# Altium schematic symbol library Vishay Lite-On Discrete Diode.SchLib: 290 symbols (part 1 of 3)
Pins are listed as number, name and electrical type; pins without a type are passive.

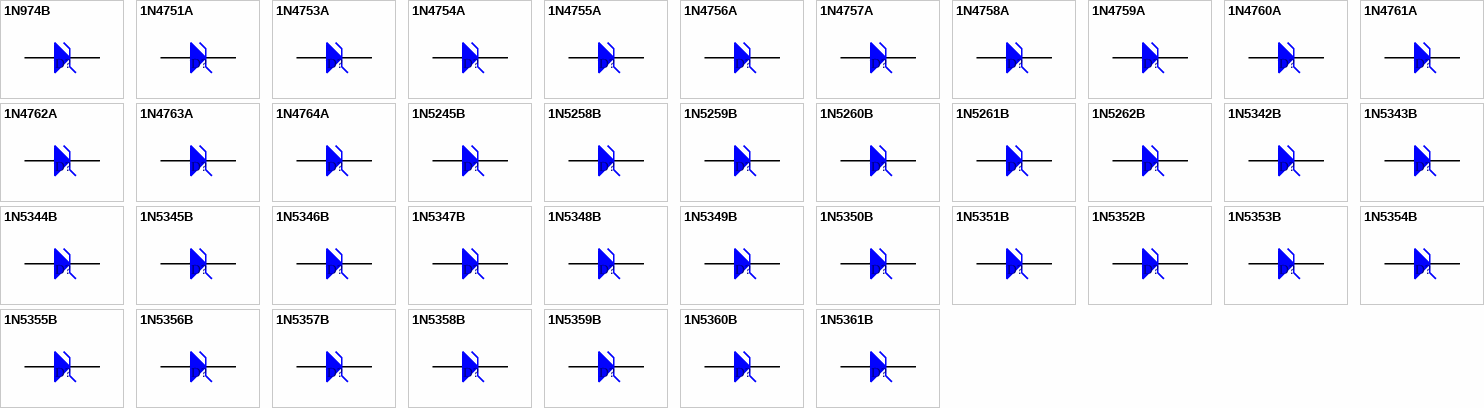
[diagram p0: symbols 1N974B to 1N5361B]

## 1N974B
designator D?
Silicon Zener Diode; Published: 8-Jun-2000; LatestRevisionDate: 17-Jul-2002; LatestRevisionNote: Re-released for DXP Platform.; PackageReference: DO-35; Publisher: Altium Limited; ComponentLink1Description: Manufacturer Link; ComponentLink1URL: http://www.vishay.com/
footprint DO-35 (Diode, Axial; Body 4 x 2 mm (LxDia. max), Lead Dia. 0.6 mm (max))
simulation model 1N974B (SUBCKT)
signal-integrity model 1N974B
pins: 1 A, 2 K

## 1N4751A
designator D?
1W Zener Diode; Published: 8-Jun-2000; LatestRevisionDate: 17-Jul-2002; LatestRevisionNote: Re-released for DXP Platform.; DatasheetDocument: REV. H; PackageReference: DO-41; Publisher: Altium Limited; Code_JEDEC: DO-204-AL; ComponentLink1Description: Manufacturer Link; ComponentLink1URL: http://www.vishay.com/; ComponentLink2Description: Datasheet; ComponentLink2URL: http://www.vishay.com/docs/85816/85816.pdf
footprint DO-41 (Diode, Axial; Body 4.7 x 2.7 mm (LxDia. max), Lead Dia. 0.86 mm (max))
simulation model 1N4751A (SUBCKT)
signal-integrity model 1N4751A
pins: 1 A, 2 K

## 1N4753A
designator D?
1W Zener Diode; Published: 8-Jun-2000; LatestRevisionDate: 17-Jul-2002; LatestRevisionNote: Re-released for DXP Platform.; DatasheetDocument: REV. H; PackageReference: DO-41; Publisher: Altium Limited; Code_JEDEC: DO-204-AL; ComponentLink1Description: Manufacturer Link; ComponentLink1URL: http://www.vishay.com/; ComponentLink2Description: Datasheet; ComponentLink2URL: http://www.vishay.com/docs/85816/85816.pdf
footprint DO-41 (Diode, Axial; Body 4.7 x 2.7 mm (LxDia. max), Lead Dia. 0.86 mm (max))
simulation model 1N4753A (SUBCKT)
signal-integrity model 1N4753A
pins: 1 A, 2 K

## 1N4754A
designator D?
1W Zener Diode; Published: 8-Jun-2000; LatestRevisionDate: 17-Jul-2002; LatestRevisionNote: Re-released for DXP Platform.; DatasheetDocument: REV. H; PackageReference: DO-41; Publisher: Altium Limited; Code_JEDEC: DO-204-AL; ComponentLink1Description: Manufacturer Link; ComponentLink1URL: http://www.vishay.com/; ComponentLink2Description: Datasheet; ComponentLink2URL: http://www.vishay.com/docs/85816/85816.pdf
footprint DO-41 (Diode, Axial; Body 4.7 x 2.7 mm (LxDia. max), Lead Dia. 0.86 mm (max))
simulation model 1N4754A (SUBCKT)
signal-integrity model 1N4754A
pins: 1 A, 2 K

## 1N4755A
designator D?
1W Zener Diode; Published: 8-Jun-2000; LatestRevisionDate: 17-Jul-2002; LatestRevisionNote: Re-released for DXP Platform.; DatasheetDocument: REV. H; PackageReference: DO-41; Publisher: Altium Limited; Code_JEDEC: DO-204-AL; ComponentLink1Description: Manufacturer Link; ComponentLink1URL: http://www.vishay.com/; ComponentLink2Description: Datasheet; ComponentLink2URL: http://www.vishay.com/docs/85816/85816.pdf
footprint DO-41 (Diode, Axial; Body 4.7 x 2.7 mm (LxDia. max), Lead Dia. 0.86 mm (max))
simulation model 1N4755A (SUBCKT)
signal-integrity model 1N4755A
pins: 1 A, 2 K

## 1N4756A
designator D?
1W Zener Diode; Published: 8-Jun-2000; LatestRevisionDate: 17-Jul-2002; LatestRevisionNote: Re-released for DXP Platform.; DatasheetDocument: REV. H; PackageReference: DO-41; Publisher: Altium Limited; Code_JEDEC: DO-204-AL; ComponentLink1Description: Manufacturer Link; ComponentLink1URL: http://www.vishay.com/; ComponentLink2Description: Datasheet; ComponentLink2URL: http://www.vishay.com/docs/85816/85816.pdf
footprint DO-41 (Diode, Axial; Body 4.7 x 2.7 mm (LxDia. max), Lead Dia. 0.86 mm (max))
simulation model 1N4756A (SUBCKT)
signal-integrity model 1N4756A
pins: 1 A, 2 K

## 1N4757A
designator D?
1W Zener Diode; Published: 8-Jun-2000; LatestRevisionDate: 17-Jul-2002; LatestRevisionNote: Re-released for DXP Platform.; DatasheetDocument: REV. H; PackageReference: DO-41; Publisher: Altium Limited; Code_JEDEC: DO-204-AL; ComponentLink1Description: Manufacturer Link; ComponentLink1URL: http://www.vishay.com/; ComponentLink2Description: Datasheet; ComponentLink2URL: http://www.vishay.com/docs/85816/85816.pdf
footprint DO-41 (Diode, Axial; Body 4.7 x 2.7 mm (LxDia. max), Lead Dia. 0.86 mm (max))
simulation model 1N4757A (SUBCKT)
signal-integrity model 1N4757A
pins: 1 A, 2 K

## 1N4758A
designator D?
1W Zener Diode; Published: 8-Jun-2000; LatestRevisionDate: 17-Jul-2002; LatestRevisionNote: Re-released for DXP Platform.; DatasheetDocument: REV. H; PackageReference: DO-41; Publisher: Altium Limited; Code_JEDEC: DO-204-AL; ComponentLink1Description: Manufacturer Link; ComponentLink1URL: http://www.vishay.com/; ComponentLink2Description: Datasheet; ComponentLink2URL: http://www.vishay.com/docs/85816/85816.pdf
footprint DO-41 (Diode, Axial; Body 4.7 x 2.7 mm (LxDia. max), Lead Dia. 0.86 mm (max))
simulation model 1N4758A (SUBCKT)
signal-integrity model 1N4758A
pins: 1 A, 2 K

## 1N4759A
designator D?
1W Zener Diode; Published: 8-Jun-2000; LatestRevisionDate: 17-Jul-2002; LatestRevisionNote: Re-released for DXP Platform.; DatasheetDocument: REV. H; PackageReference: DO-41; Publisher: Altium Limited; Code_JEDEC: DO-204-AL; ComponentLink1Description: Manufacturer Link; ComponentLink1URL: http://www.vishay.com/; ComponentLink2Description: Datasheet; ComponentLink2URL: http://www.vishay.com/docs/85816/85816.pdf
footprint DO-41 (Diode, Axial; Body 4.7 x 2.7 mm (LxDia. max), Lead Dia. 0.86 mm (max))
simulation model 1N4759A (SUBCKT)
signal-integrity model 1N4759A
pins: 1 A, 2 K

## 1N4760A
designator D?
1W Zener Diode; Published: 8-Jun-2000; LatestRevisionDate: 17-Jul-2002; LatestRevisionNote: Re-released for DXP Platform.; DatasheetDocument: REV. H; PackageReference: DO-41; Publisher: Altium Limited; Code_JEDEC: DO-204-AL; ComponentLink1Description: Manufacturer Link; ComponentLink1URL: http://www.vishay.com/; ComponentLink2Description: Datasheet; ComponentLink2URL: http://www.vishay.com/docs/85816/85816.pdf
footprint DO-41 (Diode, Axial; Body 4.7 x 2.7 mm (LxDia. max), Lead Dia. 0.86 mm (max))
simulation model 1N4760A (SUBCKT)
signal-integrity model 1N4760A
pins: 1 A, 2 K

## 1N4761A
designator D?
1W Zener Diode; Published: 8-Jun-2000; LatestRevisionDate: 17-Jul-2002; LatestRevisionNote: Re-released for DXP Platform.; DatasheetDocument: REV. H; PackageReference: DO-41; Publisher: Altium Limited; Code_JEDEC: DO-204-AL; ComponentLink1Description: Manufacturer Link; ComponentLink1URL: http://www.vishay.com/; ComponentLink2Description: Datasheet; ComponentLink2URL: http://www.vishay.com/docs/85816/85816.pdf
footprint DO-41 (Diode, Axial; Body 4.7 x 2.7 mm (LxDia. max), Lead Dia. 0.86 mm (max))
simulation model 1N4761A (SUBCKT)
signal-integrity model 1N4761A
pins: 1 A, 2 K

## 1N4762A
designator D?
1W Zener Diode; Published: 8-Jun-2000; LatestRevisionDate: 17-Jul-2002; LatestRevisionNote: Re-released for DXP Platform.; DatasheetDocument: REV. H; PackageReference: DO-41; Publisher: Altium Limited; Code_JEDEC: DO-204-AL; ComponentLink1Description: Manufacturer Link; ComponentLink1URL: http://www.vishay.com/; ComponentLink2Description: Datasheet; ComponentLink2URL: http://www.vishay.com/docs/85816/85816.pdf
footprint DO-41 (Diode, Axial; Body 4.7 x 2.7 mm (LxDia. max), Lead Dia. 0.86 mm (max))
simulation model 1N4762A (SUBCKT)
signal-integrity model 1N4762A
pins: 1 A, 2 K

## 1N4763A
designator D?
1W Zener Diode; Published: 8-Jun-2000; LatestRevisionDate: 17-Jul-2002; LatestRevisionNote: Re-released for DXP Platform.; DatasheetDocument: REV. H; PackageReference: DO-41; Publisher: Altium Limited; Code_JEDEC: DO-204-AL; ComponentLink1Description: Manufacturer Link; ComponentLink1URL: http://www.vishay.com/; ComponentLink2Description: Datasheet; ComponentLink2URL: http://www.vishay.com/docs/85816/85816.pdf
footprint DO-41 (Diode, Axial; Body 4.7 x 2.7 mm (LxDia. max), Lead Dia. 0.86 mm (max))
simulation model 1N4763A (SUBCKT)
signal-integrity model 1N4763A
pins: 1 A, 2 K

## 1N4764A
designator D?
1W Zener Diode; Published: 8-Jun-2000; LatestRevisionDate: 17-Jul-2002; LatestRevisionNote: Re-released for DXP Platform.; DatasheetDocument: REV. H; PackageReference: DO-41; Publisher: Altium Limited; Code_JEDEC: DO-204-AL; ComponentLink1Description: Manufacturer Link; ComponentLink1URL: http://www.vishay.com/; ComponentLink2Description: Datasheet; ComponentLink2URL: http://www.vishay.com/docs/85816/85816.pdf
footprint DO-41 (Diode, Axial; Body 4.7 x 2.7 mm (LxDia. max), Lead Dia. 0.86 mm (max))
simulation model 1N4764A (SUBCKT)
signal-integrity model 1N4764A
pins: 1 A, 2 K

## 1N5245B
designator D?
500mW Epitaxial Zener Diode; Published: 8-Jun-2000; LatestRevisionDate: 17-Jul-2002; LatestRevisionNote: Re-released for DXP Platform.; DatasheetDocument: REV. G-2; PackageReference: DO-35; Publisher: Altium Limited; ComponentLink1Description: Manufacturer Link; ComponentLink1URL: http://www.vishay.com/; ComponentLink2Description: Datasheet; ComponentLink2URL: http://www.vishay.com/docs/85588/85588.pdf
footprint DO-35 (Diode, Axial; Body 4 x 2 mm (LxDia. max), Lead Dia. 0.6 mm (max))
simulation model 1N5245B (SUBCKT)
signal-integrity model 1N5245B
pins: 1 A, 2 K

## 1N5258B
designator D?
500mW Epitaxial Zener Diode; Published: 8-Jun-2000; LatestRevisionDate: 17-Jul-2002; LatestRevisionNote: Re-released for DXP Platform.; DatasheetDocument: REV. G-2; PackageReference: DO-35; Publisher: Altium Limited; ComponentLink1Description: Manufacturer Link; ComponentLink1URL: http://www.vishay.com/; ComponentLink2Description: Datasheet; ComponentLink2URL: http://www.vishay.com/docs/85588/85588.pdf
footprint DO-35 (Diode, Axial; Body 4 x 2 mm (LxDia. max), Lead Dia. 0.6 mm (max))
simulation model 1N5258B (SUBCKT)
signal-integrity model 1N5258B
pins: 1 A, 2 K

## 1N5259B
designator D?
500mW Epitaxial Zener Diode; Published: 8-Jun-2000; LatestRevisionDate: 17-Jul-2002; LatestRevisionNote: Re-released for DXP Platform.; DatasheetDocument: REV. G-2; PackageReference: DO-35; Publisher: Altium Limited; ComponentLink1Description: Manufacturer Link; ComponentLink1URL: http://www.vishay.com/; ComponentLink2Description: Datasheet; ComponentLink2URL: http://www.vishay.com/docs/85588/85588.pdf
footprint DO-35 (Diode, Axial; Body 4 x 2 mm (LxDia. max), Lead Dia. 0.6 mm (max))
simulation model 1N5259B (SUBCKT)
signal-integrity model 1N5259B
pins: 1 A, 2 K

## 1N5260B
designator D?
500mW Epitaxial Zener Diode; Published: 8-Jun-2000; LatestRevisionDate: 17-Jul-2002; LatestRevisionNote: Re-released for DXP Platform.; DatasheetDocument: REV. G-2; PackageReference: DO-35; Publisher: Altium Limited; ComponentLink1Description: Manufacturer Link; ComponentLink1URL: http://www.vishay.com/; ComponentLink2Description: Datasheet; ComponentLink2URL: http://www.vishay.com/docs/85588/85588.pdf
footprint DO-35 (Diode, Axial; Body 4 x 2 mm (LxDia. max), Lead Dia. 0.6 mm (max))
simulation model 1N5260B (SUBCKT)
signal-integrity model 1N5260B
pins: 1 A, 2 K

## 1N5261B
designator D?
500mW Epitaxial Zener Diode; Published: 8-Jun-2000; LatestRevisionDate: 17-Jul-2002; LatestRevisionNote: Re-released for DXP Platform.; DatasheetDocument: REV. G-2; PackageReference: DO-35; Publisher: Altium Limited; ComponentLink1Description: Manufacturer Link; ComponentLink1URL: http://www.vishay.com/; ComponentLink2Description: Datasheet; ComponentLink2URL: http://www.vishay.com/docs/85588/85588.pdf
footprint DO-35 (Diode, Axial; Body 4 x 2 mm (LxDia. max), Lead Dia. 0.6 mm (max))
simulation model 1N5261B (SUBCKT)
signal-integrity model 1N5261B
pins: 1 A, 2 K

## 1N5262B
designator D?
500mW Epitaxial Zener Diode; Published: 8-Jun-2000; LatestRevisionDate: 17-Jul-2002; LatestRevisionNote: Re-released for DXP Platform.; DatasheetDocument: REV. G-2; PackageReference: DO-35; Publisher: Altium Limited; ComponentLink1Description: Manufacturer Link; ComponentLink1URL: http://www.vishay.com/; ComponentLink2Description: Datasheet; ComponentLink2URL: http://www.vishay.com/docs/85588/85588.pdf
footprint DO-35 (Diode, Axial; Body 4 x 2 mm (LxDia. max), Lead Dia. 0.6 mm (max))
simulation model 1N5262B (SUBCKT)
signal-integrity model 1N5262B
pins: 1 A, 2 K

## 1N5342B
designator D?
Silicon Zener Diode; Published: 8-Jun-2000; LatestRevisionDate: 17-Jul-2002; LatestRevisionNote: Re-released for DXP Platform.; PackageReference: A-500; Publisher: Altium Limited; ComponentLink1Description: Manufacturer Link; ComponentLink1URL: http://www.vishay.com/
footprint A-500 (Diode, Axial; Body 8.9 x 3.7 mm (LxDia. max), Lead Dia. 1.09 mm (max))
simulation model 1N5342B (DIODE)
signal-integrity model 1N5342B
pins: 1 A, 2 K

## 1N5343B
designator D?
Silicon Zener Diode; Published: 8-Jun-2000; LatestRevisionDate: 17-Jul-2002; LatestRevisionNote: Re-released for DXP Platform.; PackageReference: A-500; Publisher: Altium Limited; ComponentLink1Description: Manufacturer Link; ComponentLink1URL: http://www.vishay.com/
footprint A-500 (Diode, Axial; Body 8.9 x 3.7 mm (LxDia. max), Lead Dia. 1.09 mm (max))
simulation model 1N5343B (SUBCKT)
signal-integrity model 1N5343B
pins: 1 A, 2 K

## 1N5344B
designator D?
Silicon Zener Diode; Published: 8-Jun-2000; LatestRevisionDate: 17-Jul-2002; LatestRevisionNote: Re-released for DXP Platform.; PackageReference: A-500; Publisher: Altium Limited; ComponentLink1Description: Manufacturer Link; ComponentLink1URL: http://www.vishay.com/
footprint A-500 (Diode, Axial; Body 8.9 x 3.7 mm (LxDia. max), Lead Dia. 1.09 mm (max))
simulation model 1N5344B (DIODE)
signal-integrity model 1N5344B
pins: 1 A, 2 K

## 1N5345B
designator D?
Silicon Zener Diode; Published: 8-Jun-2000; LatestRevisionDate: 17-Jul-2002; LatestRevisionNote: Re-released for DXP Platform.; PackageReference: A-500; Publisher: Altium Limited; ComponentLink1Description: Manufacturer Link; ComponentLink1URL: http://www.vishay.com/
footprint A-500 (Diode, Axial; Body 8.9 x 3.7 mm (LxDia. max), Lead Dia. 1.09 mm (max))
simulation model 1N5345B (SUBCKT)
signal-integrity model 1N5345B
pins: 1 A, 2 K

## 1N5346B
designator D?
Silicon Zener Diode; Published: 8-Jun-2000; LatestRevisionDate: 17-Jul-2002; LatestRevisionNote: Re-released for DXP Platform.; PackageReference: A-500; Publisher: Altium Limited; ComponentLink1Description: Manufacturer Link; ComponentLink1URL: http://www.vishay.com/
footprint A-500 (Diode, Axial; Body 8.9 x 3.7 mm (LxDia. max), Lead Dia. 1.09 mm (max))
simulation model 1N5346B (DIODE)
signal-integrity model 1N5346B
pins: 1 A, 2 K

## 1N5347B
designator D?
Silicon Zener Diode; Published: 8-Jun-2000; LatestRevisionDate: 17-Jul-2002; LatestRevisionNote: Re-released for DXP Platform.; PackageReference: A-500; Publisher: Altium Limited; ComponentLink1Description: Manufacturer Link; ComponentLink1URL: http://www.vishay.com/
footprint A-500 (Diode, Axial; Body 8.9 x 3.7 mm (LxDia. max), Lead Dia. 1.09 mm (max))
simulation model 1N5347B (SUBCKT)
signal-integrity model 1N5347B
pins: 1 A, 2 K

## 1N5348B
designator D?
Silicon Zener Diode; Published: 8-Jun-2000; LatestRevisionDate: 17-Jul-2002; LatestRevisionNote: Re-released for DXP Platform.; PackageReference: A-500; Publisher: Altium Limited; ComponentLink1Description: Manufacturer Link; ComponentLink1URL: http://www.vishay.com/
footprint A-500 (Diode, Axial; Body 8.9 x 3.7 mm (LxDia. max), Lead Dia. 1.09 mm (max))
simulation model 1N5348B (DIODE)
signal-integrity model 1N5348B
pins: 1 A, 2 K

## 1N5349B
designator D?
Silicon Zener Diode; Published: 8-Jun-2000; LatestRevisionDate: 17-Jul-2002; LatestRevisionNote: Re-released for DXP Platform.; PackageReference: A-500; Publisher: Altium Limited; ComponentLink1Description: Manufacturer Link; ComponentLink1URL: http://www.vishay.com/
footprint A-500 (Diode, Axial; Body 8.9 x 3.7 mm (LxDia. max), Lead Dia. 1.09 mm (max))
simulation model 1N5349B (SUBCKT)
signal-integrity model 1N5349B
pins: 1 A, 2 K

## 1N5350B
designator D?
Silicon Zener Diode; Published: 8-Jun-2000; LatestRevisionDate: 17-Jul-2002; LatestRevisionNote: Re-released for DXP Platform.; PackageReference: A-500; Publisher: Altium Limited; ComponentLink1Description: Manufacturer Link; ComponentLink1URL: http://www.vishay.com/
footprint A-500 (Diode, Axial; Body 8.9 x 3.7 mm (LxDia. max), Lead Dia. 1.09 mm (max))
simulation model 1N5350B (DIODE)
signal-integrity model 1N5350B
pins: 1 A, 2 K

## 1N5351B
designator D?
Silicon Zener Diode; Published: 8-Jun-2000; LatestRevisionDate: 17-Jul-2002; LatestRevisionNote: Re-released for DXP Platform.; PackageReference: A-500; Publisher: Altium Limited; ComponentLink1Description: Manufacturer Link; ComponentLink1URL: http://www.vishay.com/
footprint A-500 (Diode, Axial; Body 8.9 x 3.7 mm (LxDia. max), Lead Dia. 1.09 mm (max))
simulation model 1N5351B (DIODE)
signal-integrity model 1N5351B
pins: 1 A, 2 K

## 1N5352B
designator D?
Silicon Zener Diode; Published: 8-Jun-2000; LatestRevisionDate: 17-Jul-2002; LatestRevisionNote: Re-released for DXP Platform.; PackageReference: A-500; Publisher: Altium Limited; ComponentLink1Description: Manufacturer Link; ComponentLink1URL: http://www.vishay.com/
footprint A-500 (Diode, Axial; Body 8.9 x 3.7 mm (LxDia. max), Lead Dia. 1.09 mm (max))
simulation model 1N5352B (SUBCKT)
signal-integrity model 1N5352B
pins: 1 A, 2 K

## 1N5353B
designator D?
Silicon Zener Diode; Published: 8-Jun-2000; LatestRevisionDate: 17-Jul-2002; LatestRevisionNote: Re-released for DXP Platform.; PackageReference: A-500; Publisher: Altium Limited; ComponentLink1Description: Manufacturer Link; ComponentLink1URL: http://www.vishay.com/
footprint A-500 (Diode, Axial; Body 8.9 x 3.7 mm (LxDia. max), Lead Dia. 1.09 mm (max))
simulation model 1N5353B (DIODE)
signal-integrity model 1N5353B
pins: 1 A, 2 K

## 1N5354B
designator D?
Silicon Zener Diode; Published: 8-Jun-2000; LatestRevisionDate: 17-Jul-2002; LatestRevisionNote: Re-released for DXP Platform.; PackageReference: A-500; Publisher: Altium Limited; ComponentLink1Description: Manufacturer Link; ComponentLink1URL: http://www.vishay.com/
footprint A-500 (Diode, Axial; Body 8.9 x 3.7 mm (LxDia. max), Lead Dia. 1.09 mm (max))
simulation model 1N5354B (SUBCKT)
signal-integrity model 1N5354B
pins: 1 A, 2 K

## 1N5355B
designator D?
Silicon Zener Diode; Published: 8-Jun-2000; LatestRevisionDate: 17-Jul-2002; LatestRevisionNote: Re-released for DXP Platform.; PackageReference: A-500; Publisher: Altium Limited; ComponentLink1Description: Manufacturer Link; ComponentLink1URL: http://www.vishay.com/
footprint A-500 (Diode, Axial; Body 8.9 x 3.7 mm (LxDia. max), Lead Dia. 1.09 mm (max))
simulation model 1N5355B (DIODE)
signal-integrity model 1N5355B
pins: 1 A, 2 K

## 1N5356B
designator D?
Silicon Zener Diode; Published: 8-Jun-2000; LatestRevisionDate: 17-Jul-2002; LatestRevisionNote: Re-released for DXP Platform.; PackageReference: A-500; Publisher: Altium Limited; ComponentLink1Description: Manufacturer Link; ComponentLink1URL: http://www.vishay.com/
footprint A-500 (Diode, Axial; Body 8.9 x 3.7 mm (LxDia. max), Lead Dia. 1.09 mm (max))
simulation model 1N5356B (SUBCKT)
signal-integrity model 1N5356B
pins: 1 A, 2 K

## 1N5357B
designator D?
Silicon Zener Diode; Published: 8-Jun-2000; LatestRevisionDate: 17-Jul-2002; LatestRevisionNote: Re-released for DXP Platform.; PackageReference: A-500; Publisher: Altium Limited; ComponentLink1Description: Manufacturer Link; ComponentLink1URL: http://www.vishay.com/
footprint A-500 (Diode, Axial; Body 8.9 x 3.7 mm (LxDia. max), Lead Dia. 1.09 mm (max))
simulation model 1N5357B (DIODE)
signal-integrity model 1N5357B
pins: 1 A, 2 K

## 1N5358B
designator D?
Silicon Zener Diode; Published: 8-Jun-2000; LatestRevisionDate: 17-Jul-2002; LatestRevisionNote: Re-released for DXP Platform.; PackageReference: A-500; Publisher: Altium Limited; ComponentLink1Description: Manufacturer Link; ComponentLink1URL: http://www.vishay.com/
footprint A-500 (Diode, Axial; Body 8.9 x 3.7 mm (LxDia. max), Lead Dia. 1.09 mm (max))
simulation model 1N5358B (SUBCKT)
signal-integrity model 1N5358B
pins: 1 A, 2 K

## 1N5359B
designator D?
Silicon Zener Diode; Published: 8-Jun-2000; LatestRevisionDate: 17-Jul-2002; LatestRevisionNote: Re-released for DXP Platform.; PackageReference: A-500; Publisher: Altium Limited; ComponentLink1Description: Manufacturer Link; ComponentLink1URL: http://www.vishay.com/
footprint A-500 (Diode, Axial; Body 8.9 x 3.7 mm (LxDia. max), Lead Dia. 1.09 mm (max))
simulation model 1N5359B (DIODE)
signal-integrity model 1N5359B
pins: 1 A, 2 K

## 1N5360B
designator D?
Silicon Zener Diode; Published: 8-Jun-2000; LatestRevisionDate: 17-Jul-2002; LatestRevisionNote: Re-released for DXP Platform.; PackageReference: A-500; Publisher: Altium Limited; ComponentLink1Description: Manufacturer Link; ComponentLink1URL: http://www.vishay.com/
footprint A-500 (Diode, Axial; Body 8.9 x 3.7 mm (LxDia. max), Lead Dia. 1.09 mm (max))
simulation model 1N5360B (SUBCKT)
signal-integrity model 1N5360B
pins: 1 A, 2 K

## 1N5361B
designator D?
Silicon Zener Diode; Published: 8-Jun-2000; LatestRevisionDate: 17-Jul-2002; LatestRevisionNote: Re-released for DXP Platform.; PackageReference: A-500; Publisher: Altium Limited; ComponentLink1Description: Manufacturer Link; ComponentLink1URL: http://www.vishay.com/
footprint A-500 (Diode, Axial; Body 8.9 x 3.7 mm (LxDia. max), Lead Dia. 1.09 mm (max))
simulation model 1N5361B (DIODE)
signal-integrity model 1N5361B
pins: 1 A, 2 K

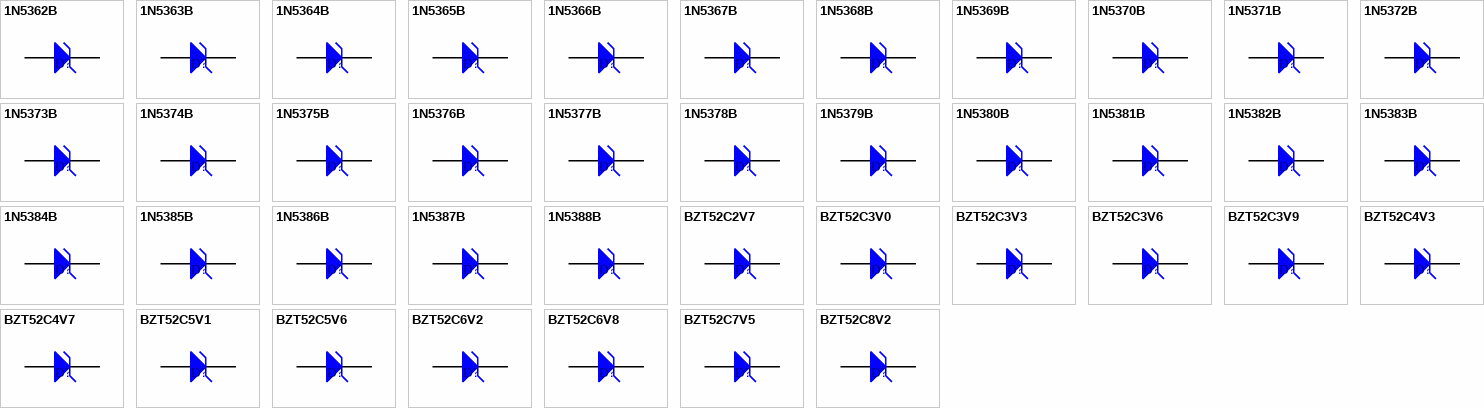
[diagram p1: symbols 1N5362B to BZT52C8V2]

## 1N5362B
designator D?
Silicon Zener Diode; Published: 8-Jun-2000; LatestRevisionDate: 17-Jul-2002; LatestRevisionNote: Re-released for DXP Platform.; PackageReference: A-500; Publisher: Altium Limited; ComponentLink1Description: Manufacturer Link; ComponentLink1URL: http://www.vishay.com/
footprint A-500 (Diode, Axial; Body 8.9 x 3.7 mm (LxDia. max), Lead Dia. 1.09 mm (max))
simulation model 1N5362B (SUBCKT)
signal-integrity model 1N5362B
pins: 1 A, 2 K

## 1N5363B
designator D?
Silicon Zener Diode; Published: 8-Jun-2000; LatestRevisionDate: 17-Jul-2002; LatestRevisionNote: Re-released for DXP Platform.; PackageReference: A-500; Publisher: Altium Limited; ComponentLink1Description: Manufacturer Link; ComponentLink1URL: http://www.vishay.com/
footprint A-500 (Diode, Axial; Body 8.9 x 3.7 mm (LxDia. max), Lead Dia. 1.09 mm (max))
simulation model 1N5363B (DIODE)
signal-integrity model 1N5363B
pins: 1 A, 2 K

## 1N5364B
designator D?
Silicon Zener Diode; Published: 8-Jun-2000; LatestRevisionDate: 17-Jul-2002; LatestRevisionNote: Re-released for DXP Platform.; PackageReference: A-500; Publisher: Altium Limited; ComponentLink1Description: Manufacturer Link; ComponentLink1URL: http://www.vishay.com/
footprint A-500 (Diode, Axial; Body 8.9 x 3.7 mm (LxDia. max), Lead Dia. 1.09 mm (max))
simulation model 1N5364B (SUBCKT)
signal-integrity model 1N5364B
pins: 1 A, 2 K

## 1N5365B
designator D?
Silicon Zener Diode; Published: 8-Jun-2000; LatestRevisionDate: 17-Jul-2002; LatestRevisionNote: Re-released for DXP Platform.; PackageReference: A-500; Publisher: Altium Limited; ComponentLink1Description: Manufacturer Link; ComponentLink1URL: http://www.vishay.com/
footprint A-500 (Diode, Axial; Body 8.9 x 3.7 mm (LxDia. max), Lead Dia. 1.09 mm (max))
simulation model 1N5365B (DIODE)
signal-integrity model 1N5365B
pins: 1 A, 2 K

## 1N5366B
designator D?
Silicon Zener Diode; Published: 8-Jun-2000; LatestRevisionDate: 17-Jul-2002; LatestRevisionNote: Re-released for DXP Platform.; PackageReference: A-500; Publisher: Altium Limited; ComponentLink1Description: Manufacturer Link; ComponentLink1URL: http://www.vishay.com/
footprint A-500 (Diode, Axial; Body 8.9 x 3.7 mm (LxDia. max), Lead Dia. 1.09 mm (max))
simulation model 1N5366B (SUBCKT)
signal-integrity model 1N5366B
pins: 1 A, 2 K

## 1N5367B
designator D?
Silicon Zener Diode; Published: 8-Jun-2000; LatestRevisionDate: 17-Jul-2002; LatestRevisionNote: Re-released for DXP Platform.; PackageReference: A-500; Publisher: Altium Limited; ComponentLink1Description: Manufacturer Link; ComponentLink1URL: http://www.vishay.com/
footprint A-500 (Diode, Axial; Body 8.9 x 3.7 mm (LxDia. max), Lead Dia. 1.09 mm (max))
simulation model 1N5367B (DIODE)
signal-integrity model 1N5367B
pins: 1 A, 2 K

## 1N5368B
designator D?
Silicon Zener Diode; Published: 8-Jun-2000; LatestRevisionDate: 17-Jul-2002; LatestRevisionNote: Re-released for DXP Platform.; PackageReference: A-500; Publisher: Altium Limited; ComponentLink1Description: Manufacturer Link; ComponentLink1URL: http://www.vishay.com/
footprint A-500 (Diode, Axial; Body 8.9 x 3.7 mm (LxDia. max), Lead Dia. 1.09 mm (max))
simulation model 1N5368B (SUBCKT)
signal-integrity model 1N5368B
pins: 1 A, 2 K

## 1N5369B
designator D?
Silicon Zener Diode; Published: 8-Jun-2000; LatestRevisionDate: 17-Jul-2002; LatestRevisionNote: Re-released for DXP Platform.; PackageReference: A-500; Publisher: Altium Limited; ComponentLink1Description: Manufacturer Link; ComponentLink1URL: http://www.vishay.com/
footprint A-500 (Diode, Axial; Body 8.9 x 3.7 mm (LxDia. max), Lead Dia. 1.09 mm (max))
simulation model 1N5369B (DIODE)
signal-integrity model 1N5369B
pins: 1 A, 2 K

## 1N5370B
designator D?
Silicon Zener Diode; Published: 8-Jun-2000; LatestRevisionDate: 17-Jul-2002; LatestRevisionNote: Re-released for DXP Platform.; PackageReference: A-500; Publisher: Altium Limited; ComponentLink1Description: Manufacturer Link; ComponentLink1URL: http://www.vishay.com/
footprint A-500 (Diode, Axial; Body 8.9 x 3.7 mm (LxDia. max), Lead Dia. 1.09 mm (max))
simulation model 1N5370B (SUBCKT)
signal-integrity model 1N5370B
pins: 1 A, 2 K

## 1N5371B
designator D?
Silicon Zener Diode; Published: 8-Jun-2000; LatestRevisionDate: 17-Jul-2002; LatestRevisionNote: Re-released for DXP Platform.; PackageReference: A-500; Publisher: Altium Limited; ComponentLink1Description: Manufacturer Link; ComponentLink1URL: http://www.vishay.com/
footprint A-500 (Diode, Axial; Body 8.9 x 3.7 mm (LxDia. max), Lead Dia. 1.09 mm (max))
simulation model 1N5371B (DIODE)
signal-integrity model 1N5371B
pins: 1 A, 2 K

## 1N5372B
designator D?
Silicon Zener Diode; Published: 8-Jun-2000; LatestRevisionDate: 17-Jul-2002; LatestRevisionNote: Re-released for DXP Platform.; PackageReference: A-500; Publisher: Altium Limited; ComponentLink1Description: Manufacturer Link; ComponentLink1URL: http://www.vishay.com/
footprint A-500 (Diode, Axial; Body 8.9 x 3.7 mm (LxDia. max), Lead Dia. 1.09 mm (max))
simulation model 1N5372B (SUBCKT)
signal-integrity model 1N5372B
pins: 1 A, 2 K

## 1N5373B
designator D?
Silicon Zener Diode; Published: 8-Jun-2000; LatestRevisionDate: 17-Jul-2002; LatestRevisionNote: Re-released for DXP Platform.; PackageReference: A-500; Publisher: Altium Limited; ComponentLink1Description: Manufacturer Link; ComponentLink1URL: http://www.vishay.com/
footprint A-500 (Diode, Axial; Body 8.9 x 3.7 mm (LxDia. max), Lead Dia. 1.09 mm (max))
simulation model 1N5373B (DIODE)
signal-integrity model 1N5373B
pins: 1 A, 2 K

## 1N5374B
designator D?
Silicon Zener Diode; Published: 8-Jun-2000; LatestRevisionDate: 17-Jul-2002; LatestRevisionNote: Re-released for DXP Platform.; PackageReference: A-500; Publisher: Altium Limited; ComponentLink1Description: Manufacturer Link; ComponentLink1URL: http://www.vishay.com/
footprint A-500 (Diode, Axial; Body 8.9 x 3.7 mm (LxDia. max), Lead Dia. 1.09 mm (max))
simulation model 1N5374B (SUBCKT)
signal-integrity model 1N5374B
pins: 1 A, 2 K

## 1N5375B
designator D?
Silicon Zener Diode; Published: 8-Jun-2000; LatestRevisionDate: 17-Jul-2002; LatestRevisionNote: Re-released for DXP Platform.; PackageReference: A-500; Publisher: Altium Limited; ComponentLink1Description: Manufacturer Link; ComponentLink1URL: http://www.vishay.com/
footprint A-500 (Diode, Axial; Body 8.9 x 3.7 mm (LxDia. max), Lead Dia. 1.09 mm (max))
simulation model 1N5375B (DIODE)
signal-integrity model 1N5375B
pins: 1 A, 2 K

## 1N5376B
designator D?
Silicon Zener Diode; Published: 8-Jun-2000; LatestRevisionDate: 17-Jul-2002; LatestRevisionNote: Re-released for DXP Platform.; PackageReference: A-500; Publisher: Altium Limited; ComponentLink1Description: Manufacturer Link; ComponentLink1URL: http://www.vishay.com/
footprint A-500 (Diode, Axial; Body 8.9 x 3.7 mm (LxDia. max), Lead Dia. 1.09 mm (max))
simulation model 1N5376B (SUBCKT)
signal-integrity model 1N5376B
pins: 1 A, 2 K

## 1N5377B
designator D?
Silicon Zener Diode; Published: 8-Jun-2000; LatestRevisionDate: 17-Jul-2002; LatestRevisionNote: Re-released for DXP Platform.; PackageReference: A-500; Publisher: Altium Limited; ComponentLink1Description: Manufacturer Link; ComponentLink1URL: http://www.vishay.com/
footprint A-500 (Diode, Axial; Body 8.9 x 3.7 mm (LxDia. max), Lead Dia. 1.09 mm (max))
simulation model 1N5377B (DIODE)
signal-integrity model 1N5377B
pins: 1 A, 2 K

## 1N5378B
designator D?
Silicon Zener Diode; Published: 8-Jun-2000; LatestRevisionDate: 17-Jul-2002; LatestRevisionNote: Re-released for DXP Platform.; PackageReference: A-500; Publisher: Altium Limited; ComponentLink1Description: Manufacturer Link; ComponentLink1URL: http://www.vishay.com/
footprint A-500 (Diode, Axial; Body 8.9 x 3.7 mm (LxDia. max), Lead Dia. 1.09 mm (max))
simulation model 1N5378B (SUBCKT)
signal-integrity model 1N5378B
pins: 1 A, 2 K

## 1N5379B
designator D?
Silicon Zener Diode; Published: 8-Jun-2000; LatestRevisionDate: 17-Jul-2002; LatestRevisionNote: Re-released for DXP Platform.; PackageReference: A-500; Publisher: Altium Limited; ComponentLink1Description: Manufacturer Link; ComponentLink1URL: http://www.vishay.com/
footprint A-500 (Diode, Axial; Body 8.9 x 3.7 mm (LxDia. max), Lead Dia. 1.09 mm (max))
simulation model 1N5379B (DIODE)
signal-integrity model 1N5379B
pins: 1 A, 2 K

## 1N5380B
designator D?
Silicon Zener Diode; Published: 8-Jun-2000; LatestRevisionDate: 17-Jul-2002; LatestRevisionNote: Re-released for DXP Platform.; PackageReference: A-500; Publisher: Altium Limited; ComponentLink1Description: Manufacturer Link; ComponentLink1URL: http://www.vishay.com/
footprint A-500 (Diode, Axial; Body 8.9 x 3.7 mm (LxDia. max), Lead Dia. 1.09 mm (max))
simulation model 1N5380B (SUBCKT)
signal-integrity model 1N5380B
pins: 1 A, 2 K

## 1N5381B
designator D?
Silicon Zener Diode; Published: 8-Jun-2000; LatestRevisionDate: 17-Jul-2002; LatestRevisionNote: Re-released for DXP Platform.; PackageReference: A-500; Publisher: Altium Limited; ComponentLink1Description: Manufacturer Link; ComponentLink1URL: http://www.vishay.com/
footprint A-500 (Diode, Axial; Body 8.9 x 3.7 mm (LxDia. max), Lead Dia. 1.09 mm (max))
simulation model 1N5381B (DIODE)
signal-integrity model 1N5381B
pins: 1 A, 2 K

## 1N5382B
designator D?
Silicon Zener Diode; Published: 8-Jun-2000; LatestRevisionDate: 17-Jul-2002; LatestRevisionNote: Re-released for DXP Platform.; PackageReference: A-500; Publisher: Altium Limited; ComponentLink1Description: Manufacturer Link; ComponentLink1URL: http://www.vishay.com/
footprint A-500 (Diode, Axial; Body 8.9 x 3.7 mm (LxDia. max), Lead Dia. 1.09 mm (max))
simulation model 1N5382B (SUBCKT)
signal-integrity model 1N5382B
pins: 1 A, 2 K

## 1N5383B
designator D?
Silicon Zener Diode; Published: 8-Jun-2000; LatestRevisionDate: 17-Jul-2002; LatestRevisionNote: Re-released for DXP Platform.; PackageReference: A-500; Publisher: Altium Limited; ComponentLink1Description: Manufacturer Link; ComponentLink1URL: http://www.vishay.com/
footprint A-500 (Diode, Axial; Body 8.9 x 3.7 mm (LxDia. max), Lead Dia. 1.09 mm (max))
simulation model 1N5383B (DIODE)
signal-integrity model 1N5383B
pins: 1 A, 2 K

## 1N5384B
designator D?
Silicon Zener Diode; Published: 8-Jun-2000; LatestRevisionDate: 17-Jul-2002; LatestRevisionNote: Re-released for DXP Platform.; PackageReference: A-500; Publisher: Altium Limited; ComponentLink1Description: Manufacturer Link; ComponentLink1URL: http://www.vishay.com/
footprint A-500 (Diode, Axial; Body 8.9 x 3.7 mm (LxDia. max), Lead Dia. 1.09 mm (max))
simulation model 1N5384B (SUBCKT)
signal-integrity model 1N5384B
pins: 1 A, 2 K

## 1N5385B
designator D?
Silicon Zener Diode; Published: 8-Jun-2000; LatestRevisionDate: 17-Jul-2002; LatestRevisionNote: Re-released for DXP Platform.; PackageReference: A-500; Publisher: Altium Limited; ComponentLink1Description: Manufacturer Link; ComponentLink1URL: http://www.vishay.com/
footprint A-500 (Diode, Axial; Body 8.9 x 3.7 mm (LxDia. max), Lead Dia. 1.09 mm (max))
simulation model 1N5385B (DIODE)
signal-integrity model 1N5385B
pins: 1 A, 2 K

## 1N5386B
designator D?
Silicon Zener Diode; Published: 8-Jun-2000; LatestRevisionDate: 17-Jul-2002; LatestRevisionNote: Re-released for DXP Platform.; PackageReference: A-500; Publisher: Altium Limited; ComponentLink1Description: Manufacturer Link; ComponentLink1URL: http://www.vishay.com/
footprint A-500 (Diode, Axial; Body 8.9 x 3.7 mm (LxDia. max), Lead Dia. 1.09 mm (max))
simulation model 1N5386B (SUBCKT)
signal-integrity model 1N5386B
pins: 1 A, 2 K

## 1N5387B
designator D?
Silicon Zener Diode; Published: 8-Jun-2000; LatestRevisionDate: 17-Jul-2002; LatestRevisionNote: Re-released for DXP Platform.; PackageReference: A-500; Publisher: Altium Limited; ComponentLink1Description: Manufacturer Link; ComponentLink1URL: http://www.vishay.com/
footprint A-500 (Diode, Axial; Body 8.9 x 3.7 mm (LxDia. max), Lead Dia. 1.09 mm (max))
simulation model 1N5387B (DIODE)
signal-integrity model 1N5387B
pins: 1 A, 2 K

## 1N5388B
designator D?
Silicon Zener Diode; Published: 8-Jun-2000; LatestRevisionDate: 17-Jul-2002; LatestRevisionNote: Re-released for DXP Platform.; PackageReference: A-500; Publisher: Altium Limited; ComponentLink1Description: Manufacturer Link; ComponentLink1URL: http://www.vishay.com/
footprint A-500 (Diode, Axial; Body 8.9 x 3.7 mm (LxDia. max), Lead Dia. 1.09 mm (max))
simulation model 1N5388B (SUBCKT)
signal-integrity model 1N5388B
pins: 1 A, 2 K

## BZT52C2V7
designator D?
Surface Mount Zener Diode; Published: 8-Jun-2000; LatestRevisionDate: 17-Jul-2002; LatestRevisionNote: Re-released for DXP Platform.; DatasheetDocument: REV. L-2; PackageReference: SOD-123; Publisher: Altium Limited; ComponentLink1Description: Manufacturer Link; ComponentLink1URL: http://www.vishay.com/
footprint SOD-123 (SOD-123; 2 Leads; Body 2.7 x 1.6 mm, (LxW))
simulation model BZT52C2V7 (SUBCKT)
signal-integrity model BZT52C2V7
pins: 1 A, 2 K

## BZT52C3V0
designator D?
Surface Mount Zener Diode; Published: 8-Jun-2000; LatestRevisionDate: 17-Jul-2002; LatestRevisionNote: Re-released for DXP Platform.; DatasheetDocument: REV. L-2; PackageReference: SOD-123; Publisher: Altium Limited; ComponentLink1Description: Manufacturer Link; ComponentLink1URL: http://www.vishay.com/
footprint SOD-123 (SOD-123; 2 Leads; Body 2.7 x 1.6 mm, (LxW))
simulation model BZT52C3V0 (SUBCKT)
signal-integrity model BZT52C3V0
pins: 1 A, 2 K

## BZT52C3V3
designator D?
Surface Mount Zener Diode; Published: 8-Jun-2000; LatestRevisionDate: 17-Jul-2002; LatestRevisionNote: Re-released for DXP Platform.; DatasheetDocument: REV. L-2; PackageReference: SOD-123; Publisher: Altium Limited; ComponentLink1Description: Manufacturer Link; ComponentLink1URL: http://www.vishay.com/
footprint SOD-123 (SOD-123; 2 Leads; Body 2.7 x 1.6 mm, (LxW))
simulation model BZT52C3V3 (SUBCKT)
signal-integrity model BZT52C3V3
pins: 1 A, 2 K

## BZT52C3V6
designator D?
Surface Mount Zener Diode; Published: 8-Jun-2000; LatestRevisionDate: 17-Jul-2002; LatestRevisionNote: Re-released for DXP Platform.; DatasheetDocument: REV. L-2; PackageReference: SOD-123; Publisher: Altium Limited; ComponentLink1Description: Manufacturer Link; ComponentLink1URL: http://www.vishay.com/
footprint SOD-123 (SOD-123; 2 Leads; Body 2.7 x 1.6 mm, (LxW))
simulation model BZT52C3V6 (SUBCKT)
signal-integrity model BZT52C3V6
pins: 1 A, 2 K

## BZT52C3V9
designator D?
Surface Mount Zener Diode; Published: 8-Jun-2000; LatestRevisionDate: 17-Jul-2002; LatestRevisionNote: Re-released for DXP Platform.; DatasheetDocument: REV. L-2; PackageReference: SOD-123; Publisher: Altium Limited; ComponentLink1Description: Manufacturer Link; ComponentLink1URL: http://www.vishay.com/
footprint SOD-123 (SOD-123; 2 Leads; Body 2.7 x 1.6 mm, (LxW))
simulation model BZT52C3V9 (SUBCKT)
signal-integrity model BZT52C3V9
pins: 1 A, 2 K

## BZT52C4V3
designator D?
Surface Mount Zener Diode; Published: 8-Jun-2000; LatestRevisionDate: 17-Jul-2002; LatestRevisionNote: Re-released for DXP Platform.; DatasheetDocument: REV. L-2; PackageReference: SOD-123; Publisher: Altium Limited; ComponentLink1Description: Manufacturer Link; ComponentLink1URL: http://www.vishay.com/
footprint SOD-123 (SOD-123; 2 Leads; Body 2.7 x 1.6 mm, (LxW))
simulation model BZT52C4V3 (SUBCKT)
signal-integrity model BZT52C4V3
pins: 1 A, 2 K

## BZT52C4V7
designator D?
Surface Mount Zener Diode; Published: 8-Jun-2000; LatestRevisionDate: 17-Jul-2002; LatestRevisionNote: Re-released for DXP Platform.; DatasheetDocument: REV. L-2; PackageReference: SOD-123; Publisher: Altium Limited; ComponentLink1Description: Manufacturer Link; ComponentLink1URL: http://www.vishay.com/
footprint SOD-123 (SOD-123; 2 Leads; Body 2.7 x 1.6 mm, (LxW))
simulation model BZT52C4V7 (SUBCKT)
signal-integrity model BZT52C4V7
pins: 1 A, 2 K

## BZT52C5V1
designator D?
Surface Mount Zener Diode; Published: 8-Jun-2000; LatestRevisionDate: 17-Jul-2002; LatestRevisionNote: Re-released for DXP Platform.; DatasheetDocument: REV. L-2; PackageReference: SOD-123; Publisher: Altium Limited; ComponentLink1Description: Manufacturer Link; ComponentLink1URL: http://www.vishay.com/
footprint SOD-123 (SOD-123; 2 Leads; Body 2.7 x 1.6 mm, (LxW))
simulation model BZT52C5V1 (SUBCKT)
signal-integrity model BZT52C5V1
pins: 1 A, 2 K

## BZT52C5V6
designator D?
Surface Mount Zener Diode; Published: 8-Jun-2000; LatestRevisionDate: 17-Jul-2002; LatestRevisionNote: Re-released for DXP Platform.; DatasheetDocument: REV. L-2; PackageReference: SOD-123; Publisher: Altium Limited; ComponentLink1Description: Manufacturer Link; ComponentLink1URL: http://www.vishay.com/
footprint SOD-123 (SOD-123; 2 Leads; Body 2.7 x 1.6 mm, (LxW))
simulation model BZT52C5V6 (SUBCKT)
signal-integrity model BZT52C5V6
pins: 1 A, 2 K

## BZT52C6V2
designator D?
Surface Mount Zener Diode; Published: 8-Jun-2000; LatestRevisionDate: 17-Jul-2002; LatestRevisionNote: Re-released for DXP Platform.; DatasheetDocument: REV. L-2; PackageReference: SOD-123; Publisher: Altium Limited; ComponentLink1Description: Manufacturer Link; ComponentLink1URL: http://www.vishay.com/
footprint SOD-123 (SOD-123; 2 Leads; Body 2.7 x 1.6 mm, (LxW))
simulation model BZT52C6V2 (SUBCKT)
signal-integrity model BZT52C6V2
pins: 1 A, 2 K

## BZT52C6V8
designator D?
Surface Mount Zener Diode; Published: 8-Jun-2000; LatestRevisionDate: 17-Jul-2002; LatestRevisionNote: Re-released for DXP Platform.; DatasheetDocument: REV. L-2; PackageReference: SOD-123; Publisher: Altium Limited; ComponentLink1Description: Manufacturer Link; ComponentLink1URL: http://www.vishay.com/
footprint SOD-123 (SOD-123; 2 Leads; Body 2.7 x 1.6 mm, (LxW))
simulation model BZT52C6V8 (SUBCKT)
signal-integrity model BZT52C6V8
pins: 1 A, 2 K

## BZT52C7V5
designator D?
Surface Mount Zener Diode; Published: 8-Jun-2000; LatestRevisionDate: 17-Jul-2002; LatestRevisionNote: Re-released for DXP Platform.; DatasheetDocument: REV. L-2; PackageReference: SOD-123; Publisher: Altium Limited; ComponentLink1Description: Manufacturer Link; ComponentLink1URL: http://www.vishay.com/
footprint SOD-123 (SOD-123; 2 Leads; Body 2.7 x 1.6 mm, (LxW))
simulation model BZT52C7V5 (SUBCKT)
signal-integrity model BZT52C7V5
pins: 1 A, 2 K

## BZT52C8V2
designator D?
Surface Mount Zener Diode; Published: 8-Jun-2000; LatestRevisionDate: 17-Jul-2002; LatestRevisionNote: Re-released for DXP Platform.; DatasheetDocument: REV. L-2; PackageReference: SOD-123; Publisher: Altium Limited; ComponentLink1Description: Manufacturer Link; ComponentLink1URL: http://www.vishay.com/
footprint SOD-123 (SOD-123; 2 Leads; Body 2.7 x 1.6 mm, (LxW))
simulation model BZT52C8V2 (SUBCKT)
signal-integrity model BZT52C8V2
pins: 1 A, 2 K

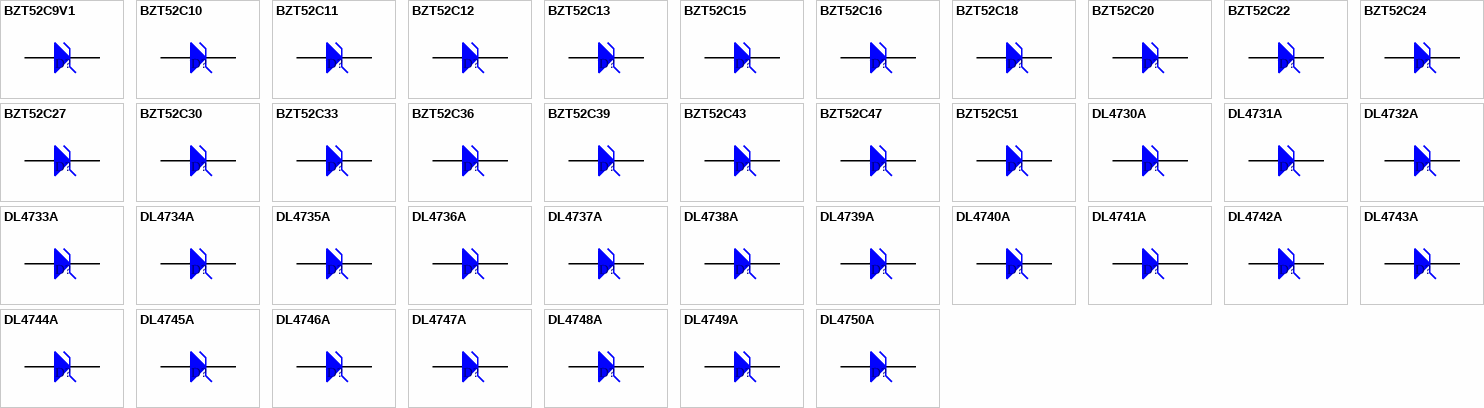
[diagram p2: symbols BZT52C9V1 to DL4750A]

## BZT52C9V1
designator D?
Surface Mount Zener Diode; Published: 8-Jun-2000; LatestRevisionDate: 17-Jul-2002; LatestRevisionNote: Re-released for DXP Platform.; DatasheetDocument: REV. L-2; PackageReference: SOD-123; Publisher: Altium Limited; ComponentLink1Description: Manufacturer Link; ComponentLink1URL: http://www.vishay.com/
footprint SOD-123 (SOD-123; 2 Leads; Body 2.7 x 1.6 mm, (LxW))
simulation model BZT52C9V1 (SUBCKT)
signal-integrity model BZT52C9V1
pins: 1 A, 2 K

## BZT52C10
designator D?
Surface Mount Zener Diode; Published: 8-Jun-2000; LatestRevisionDate: 17-Jul-2002; LatestRevisionNote: Re-released for DXP Platform.; DatasheetDocument: REV. L-2; PackageReference: SOD-123; Publisher: Altium Limited; ComponentLink1Description: Manufacturer Link; ComponentLink1URL: http://www.vishay.com/
footprint SOD-123 (SOD-123; 2 Leads; Body 2.7 x 1.6 mm, (LxW))
simulation model BZT52C10 (SUBCKT)
signal-integrity model BZT52C10
pins: 1 A, 2 K

## BZT52C11
designator D?
Surface Mount Zener Diode; Published: 8-Jun-2000; LatestRevisionDate: 17-Jul-2002; LatestRevisionNote: Re-released for DXP Platform.; DatasheetDocument: REV. L-2; PackageReference: SOD-123; Publisher: Altium Limited; ComponentLink1Description: Manufacturer Link; ComponentLink1URL: http://www.vishay.com/
footprint SOD-123 (SOD-123; 2 Leads; Body 2.7 x 1.6 mm, (LxW))
simulation model BZT52C11 (SUBCKT)
signal-integrity model BZT52C11
pins: 1 A, 2 K

## BZT52C12
designator D?
Surface Mount Zener Diode; Published: 8-Jun-2000; LatestRevisionDate: 17-Jul-2002; LatestRevisionNote: Re-released for DXP Platform.; DatasheetDocument: REV. L-2; PackageReference: SOD-123; Publisher: Altium Limited; ComponentLink1Description: Manufacturer Link; ComponentLink1URL: http://www.vishay.com/
footprint SOD-123 (SOD-123; 2 Leads; Body 2.7 x 1.6 mm, (LxW))
simulation model BZT52C12 (SUBCKT)
signal-integrity model BZT52C12
pins: 1 A, 2 K

## BZT52C13
designator D?
Surface Mount Zener Diode; Published: 8-Jun-2000; LatestRevisionDate: 17-Jul-2002; LatestRevisionNote: Re-released for DXP Platform.; DatasheetDocument: REV. L-2; PackageReference: SOD-123; Publisher: Altium Limited; ComponentLink1Description: Manufacturer Link; ComponentLink1URL: http://www.vishay.com/
footprint SOD-123 (SOD-123; 2 Leads; Body 2.7 x 1.6 mm, (LxW))
simulation model BZT52C13 (SUBCKT)
signal-integrity model BZT52C13
pins: 1 A, 2 K

## BZT52C15
designator D?
Surface Mount Zener Diode; Published: 8-Jun-2000; LatestRevisionDate: 17-Jul-2002; LatestRevisionNote: Re-released for DXP Platform.; DatasheetDocument: REV. L-2; PackageReference: SOD-123; Publisher: Altium Limited; ComponentLink1Description: Manufacturer Link; ComponentLink1URL: http://www.vishay.com/
footprint SOD-123 (SOD-123; 2 Leads; Body 2.7 x 1.6 mm, (LxW))
simulation model BZT52C15 (SUBCKT)
signal-integrity model BZT52C15
pins: 1 A, 2 K

## BZT52C16
designator D?
Surface Mount Zener Diode; Published: 8-Jun-2000; LatestRevisionDate: 17-Jul-2002; LatestRevisionNote: Re-released for DXP Platform.; DatasheetDocument: REV. L-2; PackageReference: SOD-123; Publisher: Altium Limited; ComponentLink1Description: Manufacturer Link; ComponentLink1URL: http://www.vishay.com/
footprint SOD-123 (SOD-123; 2 Leads; Body 2.7 x 1.6 mm, (LxW))
simulation model BZT52C16 (SUBCKT)
signal-integrity model BZT52C16
pins: 1 A, 2 K

## BZT52C18
designator D?
Surface Mount Zener Diode; Published: 8-Jun-2000; LatestRevisionDate: 17-Jul-2002; LatestRevisionNote: Re-released for DXP Platform.; DatasheetDocument: REV. L-2; PackageReference: SOD-123; Publisher: Altium Limited; ComponentLink1Description: Manufacturer Link; ComponentLink1URL: http://www.vishay.com/
footprint SOD-123 (SOD-123; 2 Leads; Body 2.7 x 1.6 mm, (LxW))
simulation model BZT52C18 (SUBCKT)
signal-integrity model BZT52C18
pins: 1 A, 2 K

## BZT52C20
designator D?
Surface Mount Zener Diode; Published: 8-Jun-2000; LatestRevisionDate: 17-Jul-2002; LatestRevisionNote: Re-released for DXP Platform.; DatasheetDocument: REV. L-2; PackageReference: SOD-123; Publisher: Altium Limited; ComponentLink1Description: Manufacturer Link; ComponentLink1URL: http://www.vishay.com/
footprint SOD-123 (SOD-123; 2 Leads; Body 2.7 x 1.6 mm, (LxW))
simulation model BZT52C20 (SUBCKT)
signal-integrity model BZT52C20
pins: 1 A, 2 K

## BZT52C22
designator D?
Surface Mount Zener Diode; Published: 8-Jun-2000; LatestRevisionDate: 17-Jul-2002; LatestRevisionNote: Re-released for DXP Platform.; DatasheetDocument: REV. L-2; PackageReference: SOD-123; Publisher: Altium Limited; ComponentLink1Description: Manufacturer Link; ComponentLink1URL: http://www.vishay.com/
footprint SOD-123 (SOD-123; 2 Leads; Body 2.7 x 1.6 mm, (LxW))
simulation model BZT52C22 (SUBCKT)
signal-integrity model BZT52C22
pins: 1 A, 2 K

## BZT52C24
designator D?
Surface Mount Zener Diode; Published: 8-Jun-2000; LatestRevisionDate: 17-Jul-2002; LatestRevisionNote: Re-released for DXP Platform.; DatasheetDocument: REV. L-2; PackageReference: SOD-123; Publisher: Altium Limited; ComponentLink1Description: Manufacturer Link; ComponentLink1URL: http://www.vishay.com/
footprint SOD-123 (SOD-123; 2 Leads; Body 2.7 x 1.6 mm, (LxW))
simulation model BZT52C24 (SUBCKT)
signal-integrity model BZT52C24
pins: 1 A, 2 K

## BZT52C27
designator D?
Surface Mount Zener Diode; Published: 8-Jun-2000; LatestRevisionDate: 17-Jul-2002; LatestRevisionNote: Re-released for DXP Platform.; DatasheetDocument: REV. L-2; PackageReference: SOD-123; Publisher: Altium Limited; ComponentLink1Description: Manufacturer Link; ComponentLink1URL: http://www.vishay.com/
footprint SOD-123 (SOD-123; 2 Leads; Body 2.7 x 1.6 mm, (LxW))
simulation model BZT52C27 (SUBCKT)
signal-integrity model BZT52C27
pins: 1 A, 2 K

## BZT52C30
designator D?
Surface Mount Zener Diode; Published: 8-Jun-2000; LatestRevisionDate: 17-Jul-2002; LatestRevisionNote: Re-released for DXP Platform.; DatasheetDocument: REV. L-2; PackageReference: SOD-123; Publisher: Altium Limited; ComponentLink1Description: Manufacturer Link; ComponentLink1URL: http://www.vishay.com/
footprint SOD-123 (SOD-123; 2 Leads; Body 2.7 x 1.6 mm, (LxW))
simulation model BZT52C30 (SUBCKT)
signal-integrity model BZT52C30
pins: 1 A, 2 K

## BZT52C33
designator D?
Surface Mount Zener Diode; Published: 8-Jun-2000; LatestRevisionDate: 17-Jul-2002; LatestRevisionNote: Re-released for DXP Platform.; DatasheetDocument: REV. L-2; PackageReference: SOD-123; Publisher: Altium Limited; ComponentLink1Description: Manufacturer Link; ComponentLink1URL: http://www.vishay.com/
footprint SOD-123 (SOD-123; 2 Leads; Body 2.7 x 1.6 mm, (LxW))
simulation model BZT52C33 (SUBCKT)
signal-integrity model BZT52C33
pins: 1 A, 2 K

## BZT52C36
designator D?
Surface Mount Zener Diode; Published: 8-Jun-2000; LatestRevisionDate: 17-Jul-2002; LatestRevisionNote: Re-released for DXP Platform.; DatasheetDocument: REV. L-2; PackageReference: SOD-123; Publisher: Altium Limited; ComponentLink1Description: Manufacturer Link; ComponentLink1URL: http://www.vishay.com/
footprint SOD-123 (SOD-123; 2 Leads; Body 2.7 x 1.6 mm, (LxW))
simulation model BZT52C36 (SUBCKT)
signal-integrity model BZT52C36
pins: 1 A, 2 K

## BZT52C39
designator D?
Surface Mount Zener Diode; Published: 8-Jun-2000; LatestRevisionDate: 17-Jul-2002; LatestRevisionNote: Re-released for DXP Platform.; DatasheetDocument: REV. L-2; PackageReference: SOD-123; Publisher: Altium Limited; ComponentLink1Description: Manufacturer Link; ComponentLink1URL: http://www.vishay.com/
footprint SOD-123 (SOD-123; 2 Leads; Body 2.7 x 1.6 mm, (LxW))
simulation model BZT52C39 (SUBCKT)
signal-integrity model BZT52C39
pins: 1 A, 2 K

## BZT52C43
designator D?
Surface Mount Zener Diode; Published: 8-Jun-2000; LatestRevisionDate: 17-Jul-2002; LatestRevisionNote: Re-released for DXP Platform.; DatasheetDocument: REV. L-2; PackageReference: SOD-123; Publisher: Altium Limited; ComponentLink1Description: Manufacturer Link; ComponentLink1URL: http://www.vishay.com/
footprint SOD-123 (SOD-123; 2 Leads; Body 2.7 x 1.6 mm, (LxW))
simulation model BZT52C43 (SUBCKT)
signal-integrity model BZT52C43
pins: 1 A, 2 K

## BZT52C47
designator D?
Surface Mount Zener Diode; Published: 8-Jun-2000; LatestRevisionDate: 17-Jul-2002; LatestRevisionNote: Re-released for DXP Platform.; DatasheetDocument: REV. L-2; PackageReference: SOD-123; Publisher: Altium Limited; ComponentLink1Description: Manufacturer Link; ComponentLink1URL: http://www.vishay.com/
footprint SOD-123 (SOD-123; 2 Leads; Body 2.7 x 1.6 mm, (LxW))
simulation model BZT52C47 (SUBCKT)
signal-integrity model BZT52C47
pins: 1 A, 2 K

## BZT52C51
designator D?
Surface Mount Zener Diode; Published: 8-Jun-2000; LatestRevisionDate: 17-Jul-2002; LatestRevisionNote: Re-released for DXP Platform.; DatasheetDocument: REV. L-2; PackageReference: SOD-123; Publisher: Altium Limited; ComponentLink1Description: Manufacturer Link; ComponentLink1URL: http://www.vishay.com/
footprint SOD-123 (SOD-123; 2 Leads; Body 2.7 x 1.6 mm, (LxW))
simulation model BZT52C51 (SUBCKT)
signal-integrity model BZT52C51
pins: 1 A, 2 K

## DL4730A
designator D?
Silicon Zener Diode; Published: 8-Jun-2000; LatestRevisionDate: 19-Mar-2004; LatestRevisionNote: Silkscreen size reduced.; PackageReference: DL-41; Publisher: Altium Limited; Code_IPC: SOD-87/MLL41; ComponentLink1Description: Manufacturer Link; ComponentLink1URL: http://www.vishay.com/
footprint DL-41 (Metal Electrode Face (MELF) Diode; Body 5 x 2.4 mm (LxDia))
simulation model DL4730A (SUBCKT)
signal-integrity model DL4730A
pins: 1 A, 2 K